# Altium footprint library NSOP.PcbLib: 3 footprints
Each footprint in its own frame and in the unit in brackets; x right, y up, seen from the top. Pads: shape width x height; smd on the part's side, far side on the other; paste and mask are expansions set on the pad; w line width, h text height; cw(c..) or ccw(c..) is an arc to the next point about the centre after c.
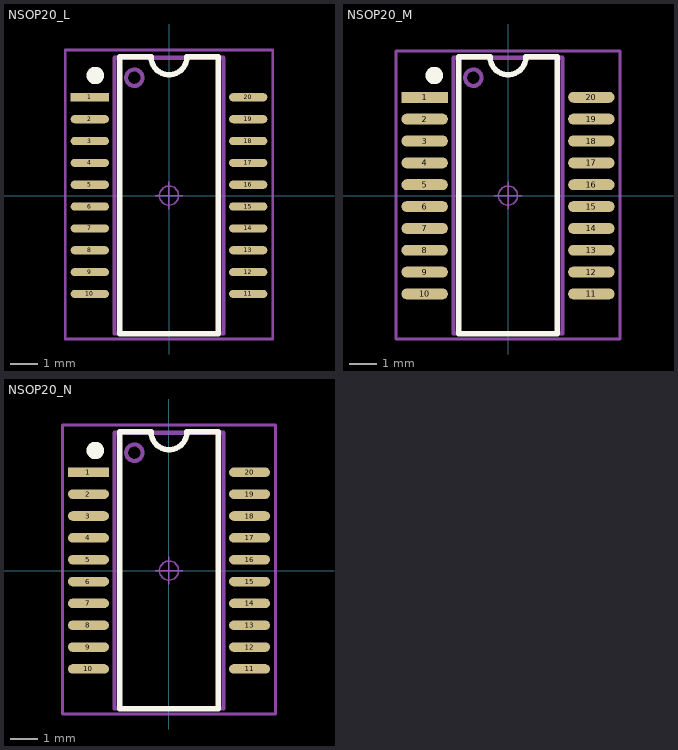
[diagram p0: the footprints below, top view; thin cyan lines are the x and y axes]

## NSOP20_L [mm] "脚距：0.8mm，长宽高：10.1*4*1.6mm"
pads (20):
  rect 1.4x0.3 smd: 1(-2.9,3.6)
  oval 1.4x0.3 smd: 2(-2.9,2.8) 3(-2.9,2) 4(-2.9,1.2) 5(-2.9,0.4) 6(-2.9,-0.4) 7(-2.9,-1.2) 8(-2.9,-2) 9(-2.9,-2.8) 10(-2.9,-3.6) 11(2.9,-3.6) 12(2.9,-2.8) 13(2.9,-2) 14(2.9,-1.2) 15(2.9,-0.4) 16(2.9,0.4) 17(2.9,1.2) 18(2.9,2) 19(2.9,2.8) 20(2.9,3.6)
Top Overlay:
  circle w0.381: c-2.7,4.4 r0.127
  lines w0.2: -1.8,-5.05 -1.8,5.08 -0.655,5.08 ccw(c0,5.08) 0.655,5.08 1.8,5.08 1.8,-5.05 -1.8,-5.05
Mechanical 13:
  circle w0.15: c-1.27,4.318 r0.3
  lines w0.15: -2,-5.05 -2,5.05 2,5.05 2,-5.05 -2,-5.05
Mechanical 15:
  circle w0.05: c0,0 r0.35
  lines w0.05: -0.5,0 0.5,0 ; 0,-0.5 0,0.5
  lines w0.1: -3.8,-5.25 -3.8,5.334 3.8,5.334 3.8,-5.25 -3.8,-5.25
3D body: height 1.65, standoff -0.02, extent -3.106,-5.05 3.106,5.05

## NSOP20_M [mm] "脚距：0.8mm，长宽高：10.1*4*1.6mm"
pads (20):
  rect 1.7x0.4 smd: 1(-3.05,3.6)
  oval 1.7x0.4 smd: 2(-3.05,2.8) 3(-3.05,2) 4(-3.05,1.2) 5(-3.05,0.4) 6(-3.05,-0.4) 7(-3.05,-1.2) 8(-3.05,-2) 9(-3.05,-2.8) 10(-3.05,-3.6) 11(3.05,-3.6) 12(3.05,-2.8) 13(3.05,-2) 14(3.05,-1.2) 15(3.05,-0.4) 16(3.05,0.4) 17(3.05,1.2) 18(3.05,2) 19(3.05,2.8) 20(3.05,3.6)
Top Overlay:
  circle w0.381: c-2.7,4.4 r0.127
  lines w0.2: -1.8,-5.05 1.8,-5.05 1.8,5.08 0.655,5.08 cw(c0,5.08) -0.655,5.08 -1.8,5.08 -1.8,-5.05
Mechanical 13:
  circle w0.15: c-1.27,4.318 r0.3
  lines w0.15: -2,-5.05 2,-5.05 2,5.05 -2,5.05 -2,-5.05
Mechanical 15:
  circle w0.05: c0,0 r0.35
  lines w0.05: -0.5,0 0.5,0 ; 0,-0.5 0,0.5
  lines w0.1: -4.1,-5.25 4.1,-5.25 4.1,5.3 -4.1,5.3 -4.1,-5.25
3D body: height 1.65, standoff -0.02, extent -3.106,-5.05 3.106,5.05

## NSOP20_N [mm] "脚距：0.8mm，长宽高：10.1*4*1.6mm"
pads (20):
  rect 1.5x0.35 smd: 1(-2.95,3.6)
  oval 1.5x0.35 smd: 2(-2.95,2.8) 3(-2.95,2) 4(-2.95,1.2) 5(-2.95,0.4) 6(-2.95,-0.4) 7(-2.95,-1.2) 8(-2.95,-2) 9(-2.95,-2.8) 10(-2.95,-3.6) 11(2.95,-3.6) 12(2.95,-2.8) 13(2.95,-2) 14(2.95,-1.2) 15(2.95,-0.4) 16(2.95,0.4) 17(2.95,1.2) 18(2.95,2) 19(2.95,2.8) 20(2.95,3.6)
Top Overlay:
  circle w0.381: c-2.7,4.4 r0.127
  lines w0.2: -1.8,-5.05 -1.8,5.08 -0.655,5.08 ccw(c0,5.08) 0.655,5.08 1.8,5.08 1.8,-5.05 -1.8,-5.05
Mechanical 13:
  circle w0.15: c-1.27,4.318 r0.3
  lines w0.15: -2,-5.05 -2,5.05 2,5.05 2,-5.05 -2,-5.05
Mechanical 15:
  circle w0.05: c0,0 r0.35
  lines w0.05: -0.5,0 0.5,0 ; 0,-0.5 0,0.5
  lines w0.1: -3.9,-5.25 -3.9,5.334 3.9,5.334 3.9,-5.25 -3.9,-5.25
3D body: height 1.65, standoff -0.02, extent -3.106,-5.05 3.106,5.05